# EAGLE library part TPS6300* (library texas)
HIGH EFFICIENT SINGLE INDUCTOR BUCK-BOOST CONVERTER WITH 1.8-A SWITCHES Source: http://focus.ti.com/lit/ds/symlink/tps63001.pdf
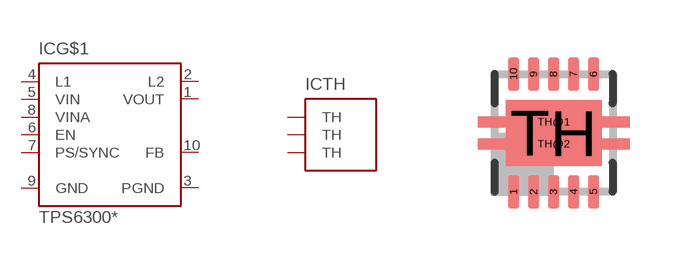
[diagram p64: symbol with the pads of DRC-S-PVSON-N10; footprint DRC-S-PVSON-N10]

Designator prefix IC; gates G$1=TPS6300X TH=THERMAL3

## TPS6300  [DRC-S-PVSON-N10]
1  G$1:VOUT  out
2  G$1:L2  pas
3  G$1:PGND  pwr
4  G$1:L1  pas
5  G$1:VIN  in
6  G$1:EN  in
7  G$1:PS/SYNC  in
8  G$1:VINA  in
9  G$1:GND  pwr
10  G$1:FB  in
TH  TH:TH  pas
TH@1  TH:TH  pas
TH@2  TH:TH  pas

## Footprint DRC-S-PVSON-N10 (pad centres in mm)
DRC (S-PVSON-N10) Source: http://focus.ti.com/lit/ds/symlink/tps63001.pdf
smd 0.28 x 0.85: 1 -1,-1.475; 2 -0.5,-1.475; 3 0,-1.475; 4 0.5,-1.475; 5 1,-1.475; 6 1,1.475; 7 0.5,1.475; 8 0,1.475; 9 -0.5,1.475; 10 -1,1.475
smd 2.4 x 1.65: TH 0,0
smd 3.8 x 0.28: TH@1 0,0.275; TH@2 0,-0.275